# EAGLE library part MCP23017T-E/SO (library MCP23017T-E_SO)
16-bit Input/Output Expander, I2C interface, Pb-free28 SOIC .300in T/R Check prices <https://pricing.snapeda.com/parts/MCP23017T-E/SO/Microchip/view-part?ref=eda>
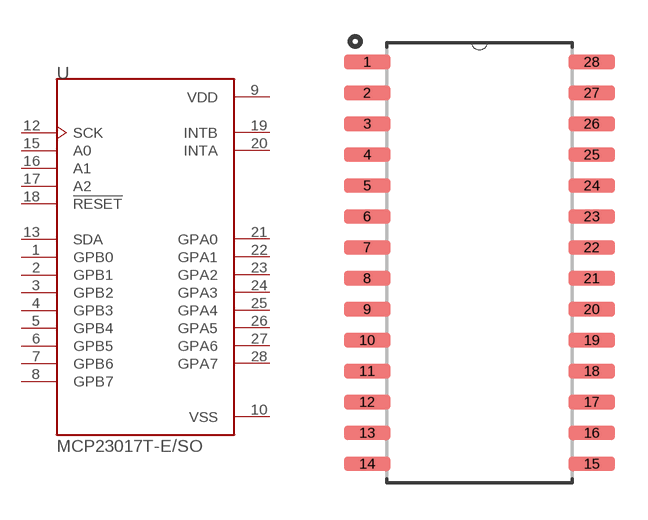
[diagram p0: symbol with the pads of SOIC127P1030X265-28N; footprint SOIC127P1030X265-28N]

Designator prefix U

## MCP23017T-E/SO (Availability: In Stock; Description: I/O Expander 16 I²C 1.7MHz 28-SOIC; MF: Microchip; MP: MCP23017T-E/SO; Package: SOIC-28 Microchip; Price: None; Purchase-URL: https://pricing.snapeda.com/search/part/MCP23017T-E/SO/?ref=eda)  [SOIC127P1030X265-28N]
1  GPB0
2  GPB1
3  GPB2
4  GPB3
5  GPB4
6  GPB5
7  GPB6
8  GPB7
9  VDD  pwr
10  VSS  pwr
12  SCK  in
13  SDA
15  A0  in
16  A1  in
17  A2  in
18  !RESET  in
19  INTB  out
20  INTA  out
21  GPA0
22  GPA1
23  GPA2
24  GPA3
25  GPA4
26  GPA5
27  GPA6
28  GPA7

## Footprint SOIC127P1030X265-28N (pad centres in mm)
smd 1.91 x 0.6: 1 -4.61,8.255; 2 -4.61,6.985; 3 -4.61,5.715; 4 -4.61,4.445; 5 -4.61,3.175; 6 -4.61,1.905; 7 -4.61,0.635; 8 -4.61,-0.635; 9 -4.61,-1.905; 10 -4.61,-3.175; 11 -4.61,-4.445; 12 -4.61,-5.715; 13 -4.61,-6.985; 14 -4.61,-8.255; 15 4.61,-8.255; 16 4.61,-6.985; 17 4.61,-5.715; 18 4.61,-4.445; 19 4.61,-3.175; 20 4.61,-1.905; 21 4.61,-0.635; 22 4.61,0.635; 23 4.61,1.905; 24 4.61,3.175; 25 4.61,4.445; 26 4.61,5.715; 27 4.61,6.985; 28 4.61,8.255